# Altium footprint library custom_components.PcbLib: 30 footprints (part 1 of 2)
Each footprint in its own frame and in the unit in brackets; x right, y up, seen from the top. Pads: shape width x height; smd on the part's side, far side on the other; paste and mask are expansions set on the pad; w line width, h text height; cw(c..) or ccw(c..) is an arc to the next point about the centre after c.
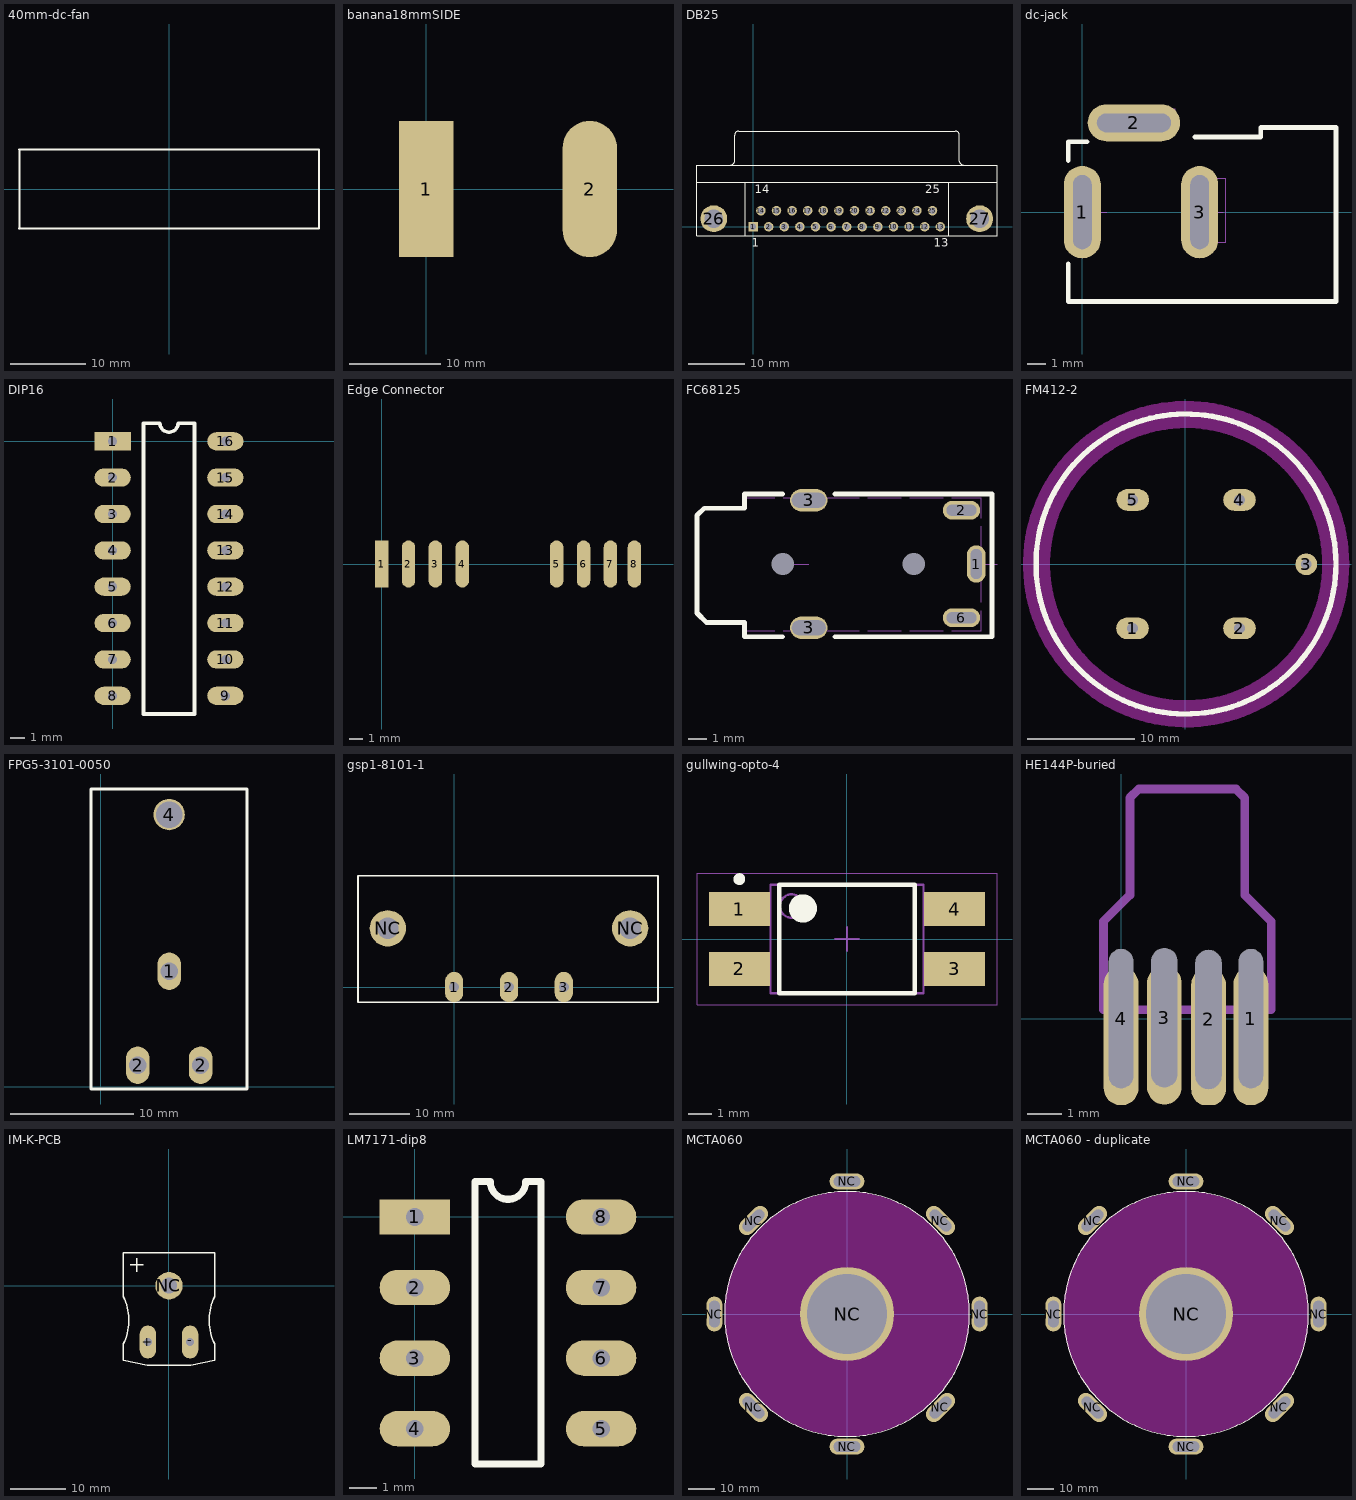
[diagram p0: the footprints below, top view; thin cyan lines are the x and y axes]

## 40mm-dc-fan [mil]
height 1574.8
Top Overlay:
  lines w10: -789.41,-206.69 785.4,-206.69 785.4,206.7 -789.41,206.7 ; -787,-204.28 -787,206.7
Mechanical 1:
  lines w10: -789.41,-206.69 -787,-204.28
3D body "40x40x10 DC Fan.STEP": height 1614.17, standoff -334.3, extent -789.41,-206.69 785.4,206.7

## banana18mmSIDE [mm]
pads (2):
  rect 6x15 smd: 1(0,0)
  oval 6x15 smd: 2(18,0)

## DB25 [mm]
pads (27):
  rect 1.69x1.69 hole 1.09: 1(0,0)
  round 1.69 hole 1.09: 2(2.761,0) 3(5.522,0) 4(8.283,0) 5(11.044,0) 6(13.805,0) 7(16.566,0) 8(19.327,0) 9(22.088,0) 10(24.849,0) 11(27.61,0) 12(30.371,0) 13(33.132,0) 14(1.381,2.84) 15(4.142,2.84) 16(6.903,2.84) 17(9.664,2.84) 18(12.424,2.84) 19(15.185,2.84) 20(17.946,2.84) 21(20.707,2.84) 22(23.469,2.84) 23(26.23,2.84) 24(28.991,2.84) 25(31.752,2.84)
  round 4.76 hole 3.26: 26(-6.96,1.42) 27(40.092,1.42)
Top Overlay:
  lines w0.2: -9.93,7.92 43.17,7.92 ; -3.975,10.925 ccw(c-3.975,11.62) -3.28,11.62 -3.28,16.22 ; -3.275,16.225 cw(c-2.58,16.225) -2.58,16.92 35.82,16.92 cw(c35.82,16.225) 36.515,16.225 ; -1.38,-1.58 -1.38,7.92 ; 34.62,-1.58 34.62,7.92 ; 36.52,16.22 36.52,11.62 ccw(c37.215,11.62) 37.215,10.925 ; -9.93,-1.58 -9.93,10.92 43.17,10.92 43.17,-1.58 -9.93,-1.58
  text "25" at 30.502,5.945 h1.5
  text "14" at 0.256,5.945 h1.5
  text "13" at 32.007,-3.555 h1.5
  text "1" at -0.25,-3.555 h1.5
3D body "c17343501o3d.STEP": height 12.6, standoff -4, extent -9.945,-1.549 43.155,16.951

## dc-jack [mm]
pads (3):
  oval 2x5 hole 1 slot 4 at 90 deg: 1(0,0) 3(6.35,0)
  oval 5x2 hole 1 slot 4 at 0 deg: 2(2.794,4.826)
Top Overlay:
  lines w0.254: -0.762,-2.794 -0.762,-4.826 13.716,-4.826 13.716,4.572 9.652,4.572 9.652,4.064 6.096,4.064 ; -0.762,2.794 -0.762,3.81 0.254,3.81
Mechanical 4:
  lines w0.013: -0.535,-1.621 0.561,-1.621 0.561,1.839 -0.535,1.839 -0.535,-1.62 ; -0.091,-0.002 1.321,-0.002 ; 0.006,-0.7 0.006,0.697 ; 1.529,4.506 1.529,5.585 ; 1.53,4.507 5.022,4.507 ; 1.53,5.585 5.022,5.585 ; 3.164,4.998 3.386,4.998 ; 3.274,4.871 3.274,5.107 ; 5.021,4.506 5.021,5.585 ; 6.226,-0.002 7.623,-0.002 ; 6.655,-1.621 7.75,-1.621 ; 6.656,-1.621 6.656,1.839 7.751,1.839 7.751,-1.621 ; 7.197,-0.7 7.197,0.696
3D body "CLIFF_DC10A_FC68148.step": height 11.3, standoff -3.4, extent -0.762,-4.621 13.538,5.129

## DIP16 [mil]
pads (16):
  rect 100x50 hole 25: 1(0,0)
  oval 100x50 hole 25: 2(0,-100) 3(0,-200) 4(0,-300) 5(0,-400) 6(0,-500) 7(0,-600) 8(0,-700) 9(310,-700) 10(310,-600) 11(310,-500) 12(310,-400) 13(310,-300) 14(310,-200) 15(310,-100) 16(310,0)
Top Overlay:
  lines w10: 85,-750 85,50 130,50 ccw(c155,50) 180,50 225,50 225,-750 85,-750

## Edge Connector [mm]
pads (8):
  rect 1x3.5 smd: 1(0,0)
  oval 1x3.5 smd: 2(2,0) 3(4,0) 4(6,0) 5(13,0) 6(15,0) 7(17,0) 8(18.78,0)

## FC68125 [mm]
pads (7):
  oval 1x2 hole 0.6 slot 1.6 at 90 deg: 1(34.214,14.046)
  oval 2x1 hole 0.6 slot 1.6 at 0 deg: 2(33.426,16.916) 6(33.426,11.176)
  oval 2x1.2 hole 0.8 slot 1.8 at 0 deg: 3(25.273,10.643) 3(25.273,17.45)
  round 0 hole 1.2: ""(23.876,14.046) ""(30.886,14.046)
Top Overlay:
  lines w0.254: 23.876,10.16 21.844,10.16 21.844,10.922 19.812,10.922 19.304,11.43 19.304,16.637 19.685,17.018 21.844,17.018 21.844,17.78 23.876,17.78 ; 26.67,10.16 35.052,10.16 35.052,17.78 26.67,17.78
Mechanical 2:
  circle w0.013: c23.891,14.035 r0.503
  circle w0.013: c30.891,14.035 r0.503
  lines w0.013: 19.381,12.675 19.381,11.326 19.397,11.232 19.436,11.147 19.506,11.084 19.592,11.038 19.685,11.03 21.884,11.03 21.884,10.476 23.458,10.476 ; 19.381,13.127 19.381,14.927 ; 19.381,15.379 19.381,16.728 19.397,16.821 19.436,16.907 19.506,16.97 19.592,17.016 19.685,17.032 21.884,17.032 21.884,17.578 23.458,17.578 ; 23.676,14.031 25.267,14.031 ; 23.887,13.945 23.887,14.109 ; 23.91,10.476 25.711,10.476 ; 23.91,17.578 25.711,17.578 ; 24.885,10.624 25.68,10.624 ; 24.885,17.437 25.68,17.437 ; 25.282,10.227 25.282,11.022 ; 25.282,17.359 25.282,17.515 ; 26.163,10.476 27.964,10.476 ; 26.163,17.578 27.964,17.578 ; 28.408,10.476 30.209,10.476 ; 28.408,17.578 30.209,17.578 ; 30.661,10.476 32.462,10.476 ; 30.661,17.578 32.462,17.578 ; 30.669,14.031 30.981,14.031 ; 30.887,13.945 30.887,14.109 ; 32.914,10.476 34.488,10.476 34.488,11.552 ; 32.914,17.578 34.488,17.578 34.488,16.502 ; 33.358,11.154 33.522,11.154 ; 33.358,16.907 33.522,16.907 ; 33.436,11.069 33.436,11.232 ; 33.436,16.821 33.436,16.985 ; 33.841,14.031 35.322,14.031 ; 34.215,13.633 34.215,14.428 ; 34.488,12.004 34.488,13.805 ; 34.488,14.257 34.488,16.058 ; 24.534,10.227 24.534,11.03 26.038,11.03 26.038,10.227 24.534,10.227 ; 24.534,17.04 24.534,17.835 26.038,17.835 26.038,17.04 24.534,17.04 ; 32.688,10.85 32.688,11.451 34.192,11.451 34.192,10.85 32.688,10.85 ; 32.688,16.603 32.688,17.203 34.192,17.203 34.192,16.603 32.688,16.603 ; 33.911,13.275 34.512,13.275 34.512,14.779 33.911,14.779 33.911,13.275
3D body "FC68125.step": height 6.2, standoff -2.6, extent 19.374,10.312 34.474,17.708

## FM412-2 [mil]
pads (5):
  oval 120x80 hole 39.37: 1(-195,-236.5) 2(199,-236.5) 4(199,236.5) 5(-194,236.5)
  round 80 hole 39.37: 3(445,-0.5)
Top Layer keep-out:
  circle w100: c2.43,-0.07 r551.18
Top Overlay:
  circle w20: c2,0.5 r552.52
Mechanical 1:
  circle w0.5: c445.34,-0.07 r15.75
  circle w0.5: c-194.42,236.15 r15.75
  circle w0.5: c-194.42,-236.29 r15.75
  circle w0.5: c199.28,-236.29 r15.75
  circle w0.5: c199.28,236.15 r15.75
3D body: height 610.24, standoff 19.68, extent -549.18,-548.52 553.19,553.54

## FPG5-3101-0050 [mm]
pads (4):
  oval 1.905x3.048 hole 1.397: 1(5.55,9.375) 2(3,1.75) 2(8.1,1.75)
  round 2.54 hole 2.159: 4(5.55,22.075)
Top Overlay:
  lines w0.254: -0.775,-0.175 11.85,-0.175 11.85,24.15 -0.775,24.15 -0.775,-0.175
3D body "3101-005.stp": height 12.75, standoff -4.85, extent -0.675,0.025 11.825,32.025

## gsp1-8101-1 [mm]
pads (5):
  oval 3x5 hole 1.65: 1(0,0) 2(9.05,0) 3(18.1,0)
  round 6 hole 3.6: NC(-10.95,9.7) NC(29.05,9.7)
Top Overlay:
  lines w0.254: -15.875,-2.54 -15.875,18.415 -15.24,18.415 33.655,18.415 33.655,-2.54 33.02,-2.54 -15.875,-2.54
3D body "e_0100.2041d007.step": height 30.25, standoff -3.6, extent -15.786,-2.485 33.814,21.815

## gullwing-opto-4 [mm] "SOP, 4-Leads, Body 4,60x6,50mm, Pitch 2,54mm, IPC Low Density"
height 3.5
pads (4):
  rect 2.6x1.45 smd: 1(-4.575,1.27) 2(-4.575,-1.27) 3(4.575,-1.27) 4(4.575,1.27)
Top Overlay:
  circle w0.6: c-1.875,1.3 r0.3
  circle w0.25: c-4.575,2.545 r0.125
  lines w0.2: -2.875,-2.3 2.875,-2.3 2.875,2.3 -2.875,2.3 -2.875,-2.3
Mechanical 13:
  circle w0.1: c-2.35,1.4 r0.5
  lines w0.1: -3.25,-2.3 3.25,-2.3 3.25,2.3 -3.25,2.3 -3.25,-2.3
Mechanical 15:
  lines w0.05: -6.375,-2.8 6.375,-2.8 6.375,2.8 -6.375,2.8 -6.375,-2.8
  lines w0.1: -0.5,0 0.5,0 ; 0,-0.5 0,0.5
3D body "gullwing-opto-4.step": height 3.5, standoff 0, extent -5.15,-2.3 5.15,2.3

## HE144P-buried [mm]
pads (4):
  oval 1x4 hole 0.7 slot 4 at 90 deg copper offset 0,-0.5: 1(3.734,0) 4(0,0)
  oval 1x4 hole 0.75 slot 4 at 90 deg copper offset 0,-0.5: 2(2.515,-0.025) 3(1.245,0.025)
Mechanical 1:
  lines w0.254: -0.508,0.254 4.318,0.254 4.318,2.794 3.556,3.556 3.556,6.35 3.302,6.604 0.508,6.604 0.254,6.35 0.254,3.556 -0.508,2.794 -0.508,0.254
3D body "HE144P (1).step": height 0.23, standoff -0.43, extent -0.275,-7.409 4.035,6.891

## IM-K-PCB [mm]
pads (3):
  oval 3x6 hole 1.5: +(-3.835,-10.262) -(3.835,-10.262)
  round 5 hole 2.9: NC(0,0)
Top Overlay:
  lines w0.254: -7.061,3.81 -4.648,3.81 ; -5.893,2.565 -5.893,4.978 ; -8.299,-13.587 -8.299,-10.587 ccw(c-17.334,-6.3) -8.299,-2.012 -8.299,5.988 8.301,5.988 8.301,-2.012 ccw(c17.335,-6.3) 8.301,-10.587 8.301,-13.587 3.951,-14.512 -3.949,-14.512 -8.299,-13.587
Mechanical 1:
  circle w0.013: c-3.844,-10.262 r0.75
  circle w0.013: c3.845,-10.262 r0.75
  circle w0.013: c3.845,-10.262 r0.75
  circle w0.013: c-3.844,-10.262 r0.75
  circle w0.013: c0.001,-0.012 r1.35
3D body "im-k-pcb.step": height 8.5, standoff -3.3, extent -8.306,-14.531 8.294,5.969

## LM7171-dip8 [mm]
pads (8):
  rect 2.54x1.27 hole 0.635: 1(0,0)
  oval 2.54x1.27 hole 0.635: 2(0,-2.54) 3(0,-5.08) 4(0,-7.62) 5(6.7,-7.62) 6(6.7,-5.08) 7(6.7,-2.54) 8(6.7,0)
Top Overlay:
  lines w0.254: 2.159,-8.89 2.159,1.27 2.715,1.27 ccw(c3.35,1.27) 3.985,1.27 4.541,1.27 4.541,-8.89 2.159,-8.89

## MCTA060 [mm]
pads (9):
  oval 6x13 hole 4 slot 10 at 90 deg: NC(-49.53,0) NC(49.53,0)
  oval 13x6 hole 4 slot 10 at 135 deg rot 135: NC(-34.925,-34.925) NC(34.925,34.925)
  oval 13x6 hole 4 slot 10 at 45 deg rot 45: NC(-34.925,34.925) NC(34.925,-34.925)
  oval 13x6 hole 4 slot 10 at 0 deg: NC(0,-49.53) NC(0,49.53)
  round 35 hole 30: NC(0,0)
Top Overlay:
  circle w0.254: c0,0 r45.75
Keep-Out Layer:
  drawing of 1 lines, arcs and shapes, not listed
3D body: height 39.13, standoff 0.13, extent -45.75,-45.737 45.75,45.738

## MCTA060 - duplicate [mm]
pads (9):
  oval 6x13 hole 4 slot 10 at 90 deg: NC(-49.53,0) NC(49.53,0)
  oval 13x6 hole 4 slot 10 at 135 deg rot 135: NC(-34.925,-34.925) NC(34.925,34.925)
  oval 13x6 hole 4 slot 10 at 45 deg rot 45: NC(-34.925,34.925) NC(34.925,-34.925)
  oval 13x6 hole 4 slot 10 at 0 deg: NC(0,-49.53) NC(0,49.53)
  round 35 hole 30: NC(0,0)
Top Overlay:
  circle w0.254: c0,0 r45.75
Keep-Out Layer:
  drawing of 1 lines, arcs and shapes, not listed
3D body: height 39.13, standoff 0.13, extent -45.75,-45.737 45.75,45.738